# EAGLE library part M04X2 (library Shared Libraries)
.1" header, two rows of four.
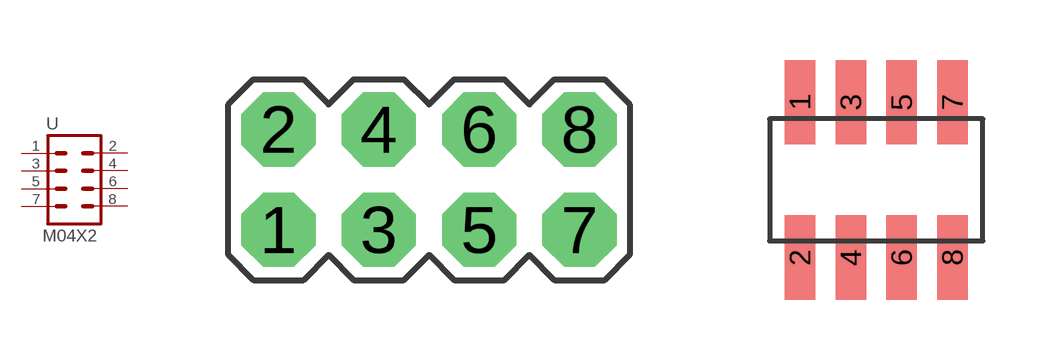
[diagram p17: symbol with the pads of 2X4; footprints 2X4, 2X4_SMT-0.05]

Designator prefix -

## M04X2  [2X4]
1  1  pas
2  2  pas
3  3  pas
4  4  pas
5  5  pas
6  6  pas
7  7  pas
8  8  pas

## M04X2SMT-0.05  [2X4_SMT-0.05]
Pads as for 2X4

## M04X20.05  [2X4_0.05]
P$1  1  pas
P$2  2  pas
P$3  3  pas
P$4  4  pas
P$5  5  pas
P$6  6  pas
P$7  7  pas
P$8  8  pas

## Footprint 2X4 (pad centres in mm)
drill 1.016 pad 1.88 octagon: 1 -3.81,-1.27; 2 -3.81,1.27; 3 -1.27,-1.27; 4 -1.27,1.27; 5 1.27,-1.27; 6 1.27,1.27; 7 3.81,-1.27; 8 3.81,1.27

## Footprint 2X4_SMT-0.05 (pad centres in mm)
smd 0.762 x 2.108: 1 -1.27,1.943; 2 -1.27,-1.943; 3 0,1.943; 4 0,-1.943; 5 1.27,1.943; 6 1.27,-1.943; 7 2.54,1.943; 8 2.54,-1.943

## Footprint 2X4_0.05 (pad centres in mm)
drill 0.7 pad 0.965 square: P$1 0,0
drill 0.7 pad 0.965: P$2 0,-1.27; P$3 1.27,0; P$4 1.27,-1.27; P$5 2.54,0; P$6 2.54,-1.27; P$7 3.81,0; P$8 3.81,-1.27